# Altium schematic symbol library amp_lib.SchLib: 1 symbol
Pins are listed as number, name and electrical type; pins without a type are passive.

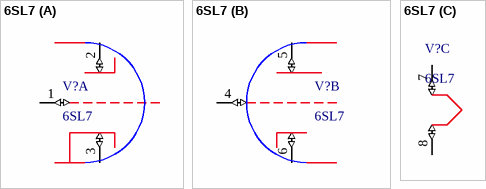
[diagram p0: symbol 6SL7]

## 6SL7
designator V?
part A pins: 1 gate (io), 2 topPlate (io), 3 topPlate (io)
part B pins: 4 gate (io), 5 topPlate (io), 6 topPlate (io)
part C pins: 7 (io), 8 (io)